# EAGLE library part FLASH_MX25L25645GZNI-08G (library LinnesLab-DigitalIC)
Manufacturer's Part Number: MX25L25645GZNI-08G Digi-Key Part Numer: 1092-1238-ND
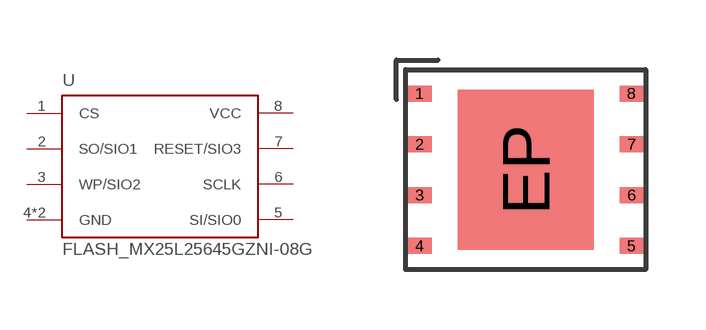
[diagram p28: symbol with the pads of 8L-WSON; footprint 8L-WSON]

Designator prefix U

## FLASH_MX25L25645GZNI-08G  [8L-WSON]
1  CS
2  SO/SIO1
3  WP/SIO2
4  GND
5  SI/SIO0
6  SCLK
7  RESET/SIO3
8  VCC
EP  GND

## Footprint 8L-WSON (pad centres in mm)
smd 0.6 x 0.4: 1 -2.65,1.905; 2 -2.65,0.635; 3 -2.65,-0.635; 4 -2.65,-1.905; 5 2.65,-1.905; 6 2.65,-0.635; 7 2.65,0.635; 8 2.65,1.905
smd 3.4 x 4: EP 0,0